# EAGLE library part TXS02612 (library C3-Ti)
TXS02612 - SDIO Port Expander with Voltage Level Translation
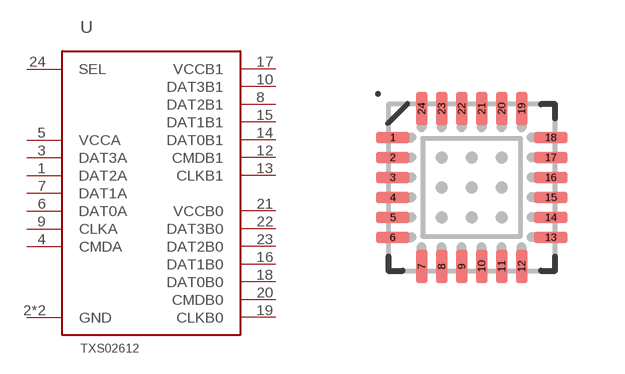
[diagram p7: symbol with the pads of QFN50P400X400X80-25N; footprint QFN50P400X400X80-25N]

Designator prefix U

## TXS02612RTW  [QFN50P400X400X80-25N]
1  DAT2A
2  GND  pwr
3  DAT3A
4  CMDA
5  VCCA  pwr
6  DAT0A
7  DAT1A
8  DAT2B1
9  CLKA
10  DAT3B1
11  GND  pwr
12  CMDB1
13  CLKB1
14  DAT0B1
15  DAT1B1
16  DAT1B0
17  VCCB1  pwr
18  DAT0B0
19  CLKB0
20  CMDB0
21  VCCB0  pwr
22  DAT3B0
23  DAT2B0
24  SEL

## Footprint QFN50P400X400X80-25N (pad centres in mm)
RTW (S-PWQFN-N24) Plastic Quad Flatpack No-Lead
smd 0.85 x 0.28: 1 -1.975,1.25; 2 -1.975,0.75; 3 -1.975,0.25; 4 -1.975,-0.25; 5 -1.975,-0.75; 6 -1.975,-1.25; 13 1.975,-1.25; 14 1.975,-0.75; 15 1.975,-0.25; 16 1.975,0.25; 17 1.975,0.75; 18 1.975,1.25
smd 0.28 x 0.85: 7 -1.25,-1.975; 8 -0.75,-1.975; 9 -0.25,-1.975; 10 0.25,-1.975; 11 0.75,-1.975; 12 1.25,-1.975; 19 1.25,1.975; 20 0.75,1.975; 21 0.25,1.975; 22 -0.25,1.975; 23 -0.75,1.975; 24 -1.25,1.975